# Altium schematic symbol library BQ27220YZFR.SchLib: 1 symbol
Pins are listed as number, name and electrical type; pins without a type are passive.

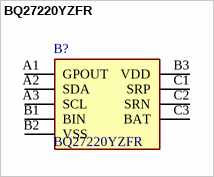
[diagram p0: symbol BQ27220YZFR]

## BQ27220YZFR
designator B?
ingle cell Pack/System-side CEDV Battery Fuel (Gas) Gauge w/Pre-programmed Chemistry Profiles, BGA-9; Manufacturer_Name: Texas Instruments; Geometry.Height: 0.625mm; Mouser Part Number: 595-BQ27220YZFR; Mouser Price/Stock: https://www.mouser.co.uk/ProductDetail/Texas-Instruments/BQ27220YZFR?qs=dSktwyqbRaX%252B5G1xe9oNWw%3D%3D; Manufacturer_Part_Number: BQ27220YZFR; Datasheet Link: http://www.ti.com/lit/ds/symlink/bq27220.pdf
footprint BGA9C50P3X3_158X162X62
pins: A1 GPOUT, A2 SDA, A3 SCL, B1 BIN, B2 VSS, B3 VDD, C1 SRP, C2 SRN, C3 BAT